# Altium footprint library PCB - CAPACITOR - ALUMINIUM - CAP ALSMD ELEC 10.4MM H11MM.pcblib: 1 footprints
Each footprint in its own frame and in the unit in brackets; x right, y up, seen from the top. Pads: shape width x height; smd on the part's side, far side on the other; paste and mask are expansions set on the pad; w line width, h text height; cw(c..) or ccw(c..) is an arc to the next point about the centre after c.
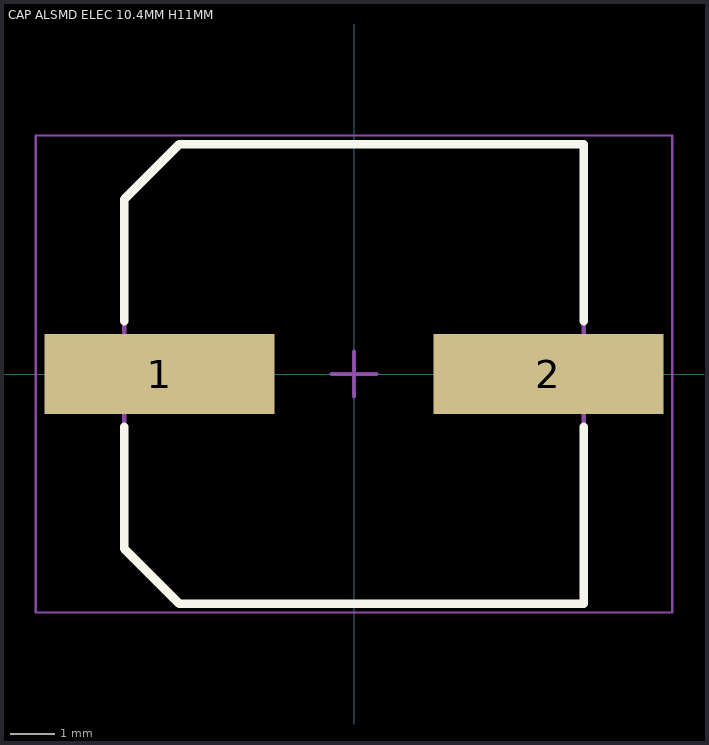
[diagram p0: the footprint, top view; thin cyan lines are the x and y axes]

## CAP ALSMD ELEC 10.4MM H11MM [mm] "Aluminum SMD Electrolytic Capacitor, 10.40mm Land Size, 10.00mm Diameter, 11.00mm Height, 11.30mm Maximum Leads Span"
height 0.9
pads (2):
  rect 5.2x1.8 smd: 1(-4.4,0) 2(4.4,0)
Top Overlay:
  lines w0.2: -5.2,-1.2 -5.2,-3.95 -3.95,-5.2 5.2,-5.2 5.2,-1.2 ; -5.2,1.2 -5.2,3.95 -3.95,5.2 5.2,5.2 5.2,1.2
Mechanical 13:
  lines w0.1: -5.2,-3.95 -5.2,3.95 -3.95,5.2 5.2,5.2 5.2,-5.2 -3.95,-5.2 -5.2,-3.95
Mechanical 15:
  lines w0.05: -7.2,-5.4 -7.2,5.4 7.2,5.4 7.2,-5.4 -7.2,-5.4
  lines w0.1: -0.5,0 0.5,0 ; 0,-0.5 0,0.5
3D body: height 11, standoff 0, extent -5.65,-5.2 5.65,5.2